# Altium footprint library LED.PcbLib: 29 footprints (part 2 of 2)
Each footprint in its own frame and in the unit in brackets; x right, y up, seen from the top. Pads: shape width x height; smd on the part's side, far side on the other; paste and mask are expansions set on the pad; w line width, h text height; cw(c..) or ccw(c..) is an arc to the next point about the centre after c.
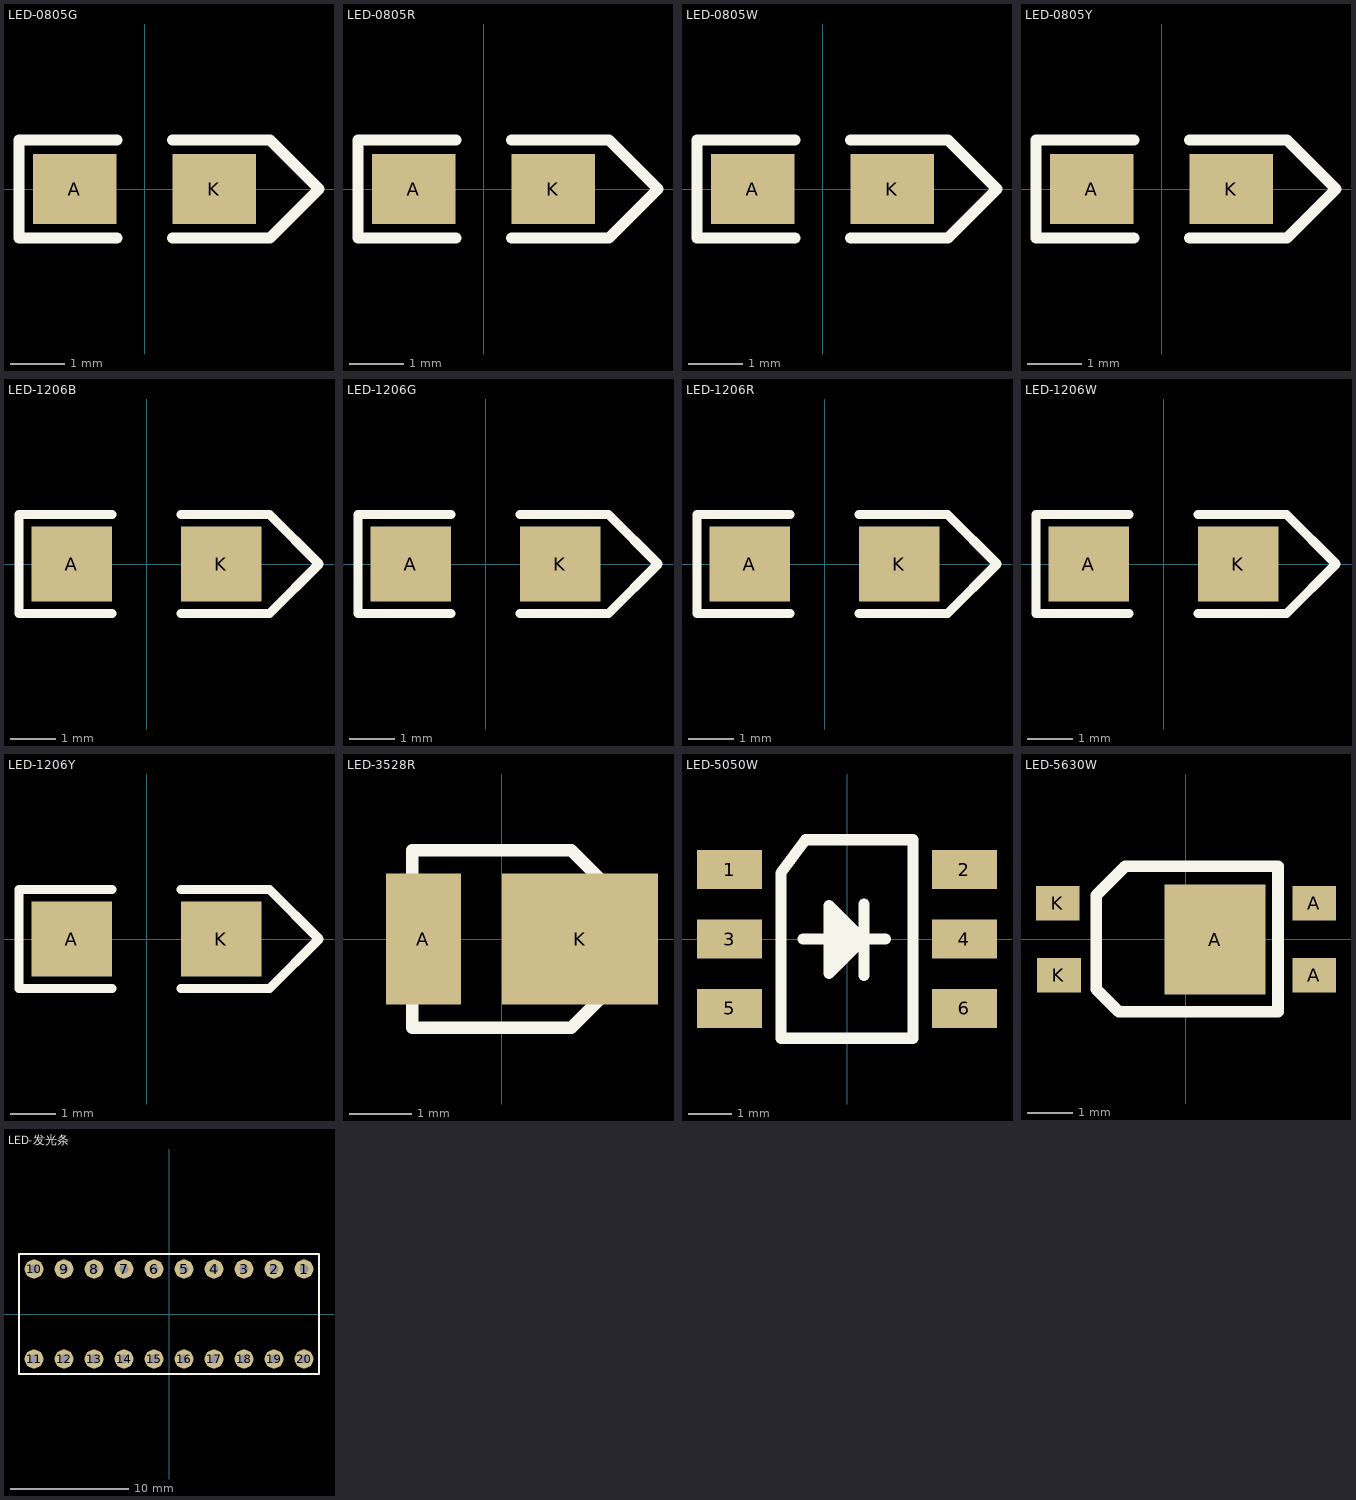
[diagram p1: the footprints below, top view; thin cyan lines are the x and y axes]

## LED-0805G [mil]
pads (2):
  rect 60x50 smd: A(-50,0) K(50,0)
Top Overlay:
  lines w8: -20,-35 -90,-35 -90,35 -20,35 ; 20,-35 90,-35 125,0 90,35 20,35
3D body "12.STEP": height 31.69, standoff -0.04, extent -39.37,-24.65 39.37,24.65

## LED-0805R [mil]
pads (2):
  rect 60x50 smd: A(-50,0) K(50,0)
Top Overlay:
  lines w8: -20,-35 -90,-35 -90,35 -20,35 ; 20,-35 90,-35 125,0 90,35 20,35
3D body "11.STEP": height 31.69, standoff -0.04, extent -39.37,-24.29 39.37,25

## LED-0805W [mil]
pads (2):
  rect 60x50 smd: A(-50,0) K(50,0)
Top Overlay:
  lines w8: -20,-35 -90,-35 -90,35 -20,35 ; 20,-35 90,-35 125,0 90,35 20,35
3D body "10.STEP": height 31.69, standoff -0.04, extent -39.36,-24.64 39.38,24.65

## LED-0805Y [mil]
pads (2):
  rect 60x50 smd: A(-50,0) K(50,0)
Top Overlay:
  lines w8: -20,-35 -90,-35 -90,35 -20,35 ; 20,-35 90,-35 125,0 90,35 20,35
3D body "m.STEP": height 31.69, standoff -0.04, extent -39.37,-26.12 39.37,23.17

## LED-1206B [mil]
pads (2):
  rect 70x65 smd: A(-65,0) K(65,0)
Top Overlay:
  lines w8: -30,-43 -111,-43 -111,43 -109,43 -30,43 ; 30,-43 107,-43 150,0 107,43 30,43
3D body "8.STEP": height 39.57, standoff -0.04, extent -68.03,-30 58.03,33.07

## LED-1206G [mil]
pads (2):
  rect 70x65 smd: A(-65,0) K(65,0)
Top Overlay:
  lines w8: -30,-43 -111,-43 -111,43 -109,43 -30,43 ; 30,-43 107,-43 150,0 107,43 30,43
3D body "7.STEP": height 39.57, standoff -0.04, extent -58.03,-30 68.03,33.07

## LED-1206R [mil]
pads (2):
  rect 70x65 smd: A(-65,0) K(65,0)
Top Overlay:
  lines w8: -30,-43 -111,-43 -111,43 -109,43 -30,43 ; 30,-43 107,-43 150,0 107,43 30,43
3D body "6.STEP": height 39.57, standoff -0.04, extent -63.03,-31.53 63.04,31.54

## LED-1206W [mil]
pads (2):
  rect 70x65 smd: A(-65,0) K(65,0)
Top Overlay:
  lines w8: -30,-43 -111,-43 -111,43 -109,43 -30,43 ; 30,-43 107,-43 150,0 107,43 30,43
3D body "5.STEP": height 39.57, standoff -0.04, extent -65,-30 61.06,33.07

## LED-1206Y [mil]
pads (2):
  rect 70x65 smd: A(-65,0) K(65,0)
Top Overlay:
  lines w8: -30,-43 -111,-43 -111,43 -109,43 -30,43 ; 30,-43 107,-43 150,0 107,43 30,43
3D body "4.STEP": height 39.57, standoff -0.04, extent -68.03,-33.07 58.03,30

## LED-3528R [mm]
pads (2):
  rect 1.2x2.1 smd: A(-1.257,0)
  rect 2.5x2.1 smd: K(1.257,0)
Top Overlay:
  lines w0.2: -1.435,-1.422 -1.435,1.422 1.118,1.422 2.07,0.47 2.07,-0.47 1.118,-1.422 -1.435,-1.422
3D body "3.STEP": height 1.95, standoff 0.05, extent -1.524,-1.4 1.976,1.4

## LED-5050W [mm]
pads (6):
  rect 1.5x0.9 smd: 1(-2.705,1.6) 2(2.705,1.6) 3(-2.705,0) 4(2.705,0) 5(-2.705,-1.6) 6(2.705,-1.6)
Top Overlay:
  lines w0.254: -1.016,0 0.889,0 ; -0.254,0.559 -0.229,-0.432 0.254,0 0,0.254 0,0 0,-0.254 ; 0.356,-0.02 -0.417,-0.792 -0.417,0.775 0.396,-0.038 ; 0.396,-0.841 0.396,0.805 ; -1.524,-2.286 -1.524,1.524 -0.953,2.286 1.524,2.286 1.524,-2.286 -1.524,-2.286
Mechanical 15:
  circle w0.05: c0,0 r0.35
  lines w0.05: -0.5,0 0.5,0 ; 0,-0.5 0,0.5
3D body "2.STEP": height 1.65, standoff 0.05, extent -2.7,-2.46 2.7,2.54

## LED-5630W [mm]
pads (5):
  rect 2.2x2.4 smd: A(0.635,-0.006)
  rect 0.95x0.75 smd: A(2.794,-0.781) A(2.794,0.781) K(-2.794,0.781) K(-2.769,-0.781)
Top Overlay:
  lines w0.254: -1.956,-1.092 -1.467,-1.581 2.007,-1.581 2.007,1.594 -1.321,1.594 -1.956,0.959 -1.956,-1.092
3D body "1.STEP": height 0.95, standoff 0.05, extent -2.773,-1.524 3.027,1.476

## LED-发光条 [mm]
pads (20):
  round 1.6 hole 0.8: 1(11.43,3.81) 2(8.89,3.81) 3(6.35,3.81) 4(3.81,3.81) 5(1.27,3.81) 6(-1.27,3.81) 7(-3.81,3.81) 8(-6.35,3.81) 9(-8.89,3.81) 10(-11.43,3.81) 11(-11.43,-3.81) 12(-8.89,-3.81) 13(-6.35,-3.81) 14(-3.81,-3.81) 15(-1.27,-3.81) 16(1.27,-3.81) 17(3.81,-3.81) 18(6.35,-3.81) 19(8.89,-3.81) 20(11.43,-3.81)
Top Overlay:
  lines w0.2: -12.7,-5.08 -12.7,5.08 12.7,5.08 12.7,-5.08 -12.7,-5.08
3D body "User Library-LED_BAR_10.STEP": height 7.3, standoff -6.5, extent -12.7,-5.08 12.7,5.08